# EAGLE library part PIC32MX795F512L-80I/PF (library arducorder-mini)
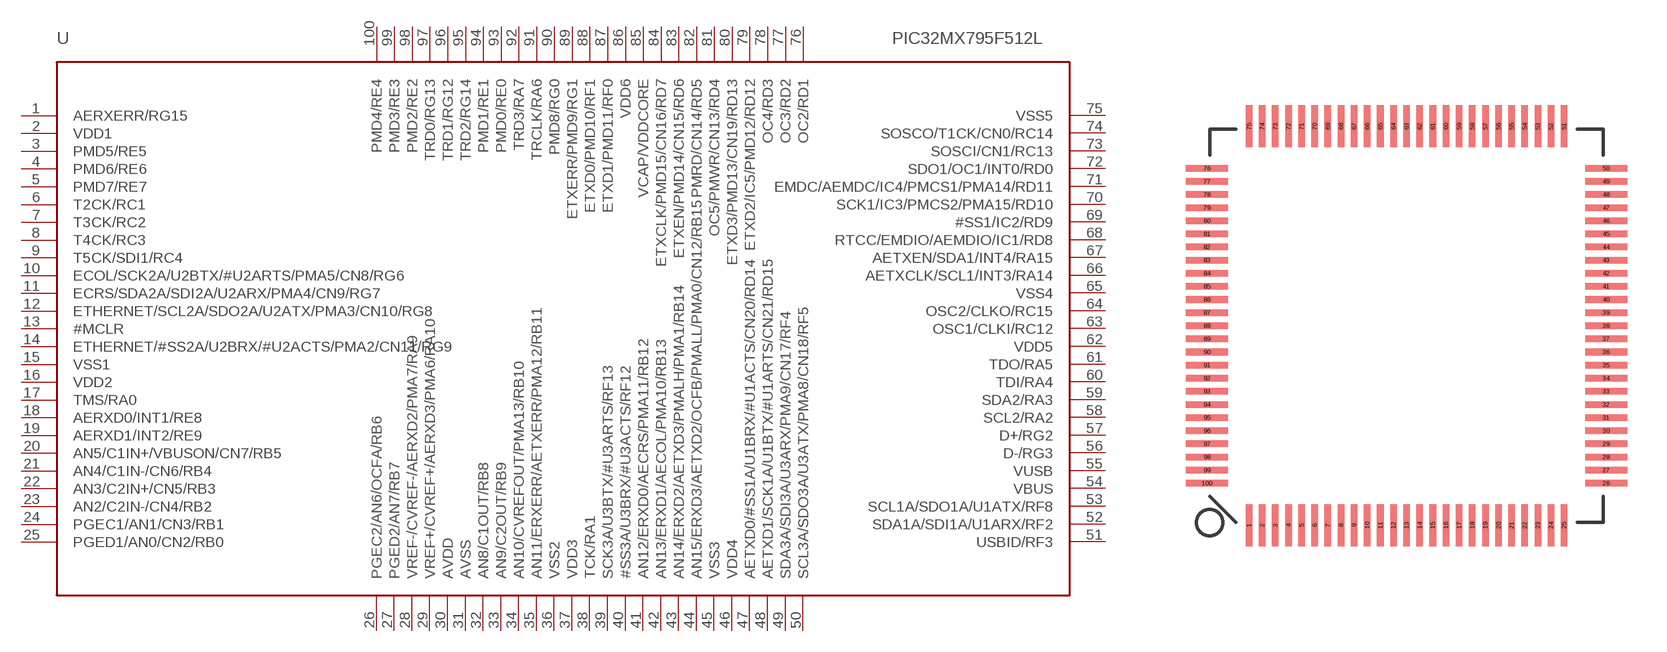
[diagram p1: symbol with the pads of SQFP-S-14X14-100; footprint SQFP-S-14X14-100]

Designator prefix -

## PIC32MX795F512L-80I/PF  [SQFP-S-14X14-100]
1  AERXERR/RG15
2  VDD1
3  PMD5/RE5
4  PMD6/RE6
5  PMD7/RE7
6  T2CK/RC1
7  T3CK/RC2
8  T4CK/RC3
9  T5CK/SDI1/RC4
10  ECOL/SCK2A/U2BTX/#U2ARTS/PMA5/CN8/RG6
11  ECRS/SDA2A/SDI2A/U2ARX/PMA4/CN9/RG7
12  ETHERNET/SCL2A/SDO2A/U2ATX/PMA3/CN10/RG8
13  #MCLR
14  ETHERNET/#SS2A/U2BRX/#U2ACTS/PMA2/CN11/RG9
15  VSS1
16  VDD2
17  TMS/RA0
18  AERXD0/INT1/RE8
19  AERXD1/INT2/RE9
20  AN5/C1IN+/VBUSON/CN7/RB5
21  AN4/C1IN-/CN6/RB4
22  AN3/C2IN+/CN5/RB3
23  AN2/C2IN-/CN4/RB2
24  PGEC1/AN1/CN3/RB1
25  PGED1/AN0/CN2/RB0
26  PGEC2/AN6/OCFA/RB6
27  PGED2/AN7/RB7
28  VREF-/CVREF-/AERXD2/PMA7/RA9
29  VREF+/CVREF+/AERXD3/PMA6/RA10
30  AVDD
31  AVSS
32  AN8/C1OUT/RB8
33  AN9/C2OUT/RB9
34  AN10/CVREFOUT/PMA13/RB10
35  AN11/ERXERR/AETXERR/PMA12/RB11
36  VSS2
37  VDD3
38  TCK/RA1
39  SCK3A/U3BTX/#U3ARTS/RF13
40  #SS3A/U3BRX/#U3ACTS/RF12
41  AN12/ERXD0/AECRS/PMA11/RB12
42  AN13/ERXD1/AECOL/PMA10/RB13
43  AN14/ERXD2/AETXD3/PMALH/PMA1/RB14
44  AN15/ERXD3/AETXD2/OCFB/PMALL/PMA0/CN12/RB15
45  VSS3
46  VDD4
47  AETXD0/#SS1A/U1BRX/#U1ACTS/CN20/RD14
48  AETXD1/SCK1A/U1BTX/#U1ARTS/CN21/RD15
49  SDA3A/SDI3A/U3ARX/PMA9/CN17/RF4
50  SCL3A/SDO3A/U3ATX/PMA8/CN18/RF5
51  USBID/RF3
52  SDA1A/SDI1A/U1ARX/RF2
53  SCL1A/SDO1A/U1ATX/RF8
54  VBUS
55  VUSB
56  D-/RG3
57  D+/RG2
58  SCL2/RA2
59  SDA2/RA3
60  TDI/RA4
61  TDO/RA5
62  VDD5
63  OSC1/CLKI/RC12
64  OSC2/CLKO/RC15
65  VSS4
66  AETXCLK/SCL1/INT3/RA14
67  AETXEN/SDA1/INT4/RA15
68  RTCC/EMDIO/AEMDIO/IC1/RD8
69  #SS1/IC2/RD9
70  SCK1/IC3/PMCS2/PMA15/RD10
71  EMDC/AEMDC/IC4/PMCS1/PMA14/RD11
72  SDO1/OC1/INT0/RD0
73  SOSCI/CN1/RC13
74  SOSCO/T1CK/CN0/RC14
75  VSS5
76  OC2/RD1
77  OC3/RD2
78  OC4/RD3
79  ETXD2/IC5/PMD12/RD12
80  ETXD3/PMD13/CN19/RD13
81  OC5/PMWR/CN13/RD4
82  PMRD/CN14/RD5
83  ETXEN/PMD14/CN15/RD6
84  ETXCLK/PMD15/CN16/RD7
85  VCAP/VDDCORE
86  VDD6
87  ETXD1/PMD11/RF0
88  ETXD0/PMD10/RF1
89  ETXERR/PMD9/RG1
90  PMD8/RG0
91  TRCLK/RA6
92  TRD3/RA7
93  PMD0/RE0
94  PMD1/RE1
95  TRD2/RG14
96  TRD1/RG12
97  TRD0/RG13
98  PMD2/RE2
99  PMD3/RE3
100  PMD4/RE4

## Footprint SQFP-S-14X14-100 (pad centres in mm)
QFP100 shrink quad flat pack, square
smd 0.25 x 1.6: 1 -6,-7.6; 2 -5.5,-7.6; 3 -5,-7.6; 4 -4.5,-7.6; 5 -4,-7.6; 6 -3.5,-7.6; 7 -3,-7.6; 8 -2.5,-7.6; 9 -2,-7.6; 10 -1.5,-7.6; 11 -1,-7.6; 12 -0.5,-7.6; 13 0,-7.6; 14 0.5,-7.6; 15 1,-7.6; 16 1.5,-7.6; 17 2,-7.6; 18 2.5,-7.6; 19 3,-7.6; 20 3.5,-7.6; 21 4,-7.6; 22 4.5,-7.6; 23 5,-7.6; 24 5.5,-7.6; 25 6,-7.6; 51 6,7.6; 52 5.5,7.6; 53 5,7.6; 54 4.5,7.6; 55 4,7.6; 56 3.5,7.6; 57 3,7.6; 58 2.5,7.6; 59 2,7.6; 60 1.5,7.6; 61 1,7.6; 62 0.5,7.6; 63 0,7.6; 64 -0.5,7.6; 65 -1,7.6; 66 -1.5,7.6; 67 -2,7.6; 68 -2.5,7.6; 69 -3,7.6; 70 -3.5,7.6; 71 -4,7.6; 72 -4.5,7.6; 73 -5,7.6; 74 -5.5,7.6; 75 -6,7.6
smd 1.6 x 0.25: 26 7.6,-6; 27 7.6,-5.5; 28 7.6,-5; 29 7.6,-4.5; 30 7.6,-4; 31 7.6,-3.5; 32 7.6,-3; 33 7.6,-2.5; 34 7.6,-2; 35 7.6,-1.5; 36 7.6,-1; 37 7.6,-0.5; 38 7.6,0; 39 7.6,0.5; 40 7.6,1; 41 7.6,1.5; 42 7.6,2; 43 7.6,2.5; 44 7.6,3; 45 7.6,3.5; 46 7.6,4; 47 7.6,4.5; 48 7.6,5; 49 7.6,5.5; 50 7.6,6; 76 -7.6,6; 77 -7.6,5.5; 78 -7.6,5; 79 -7.6,4.5; 80 -7.6,4; 81 -7.6,3.5; 82 -7.6,3; 83 -7.6,2.5; 84 -7.6,2; 85 -7.6,1.5; 86 -7.6,1; 87 -7.6,0.5; 88 -7.6,0; 89 -7.6,-0.5; 90 -7.6,-1; 91 -7.6,-1.5; 92 -7.6,-2; 93 -7.6,-2.5; 94 -7.6,-3; 95 -7.6,-3.5; 96 -7.6,-4; 97 -7.6,-4.5; 98 -7.6,-5; 99 -7.6,-5.5; 100 -7.6,-6